# Altium schematic symbol library SamacSys.SchLib: 4 symbols
Pins are listed as number, name and electrical type; pins without a type are passive.

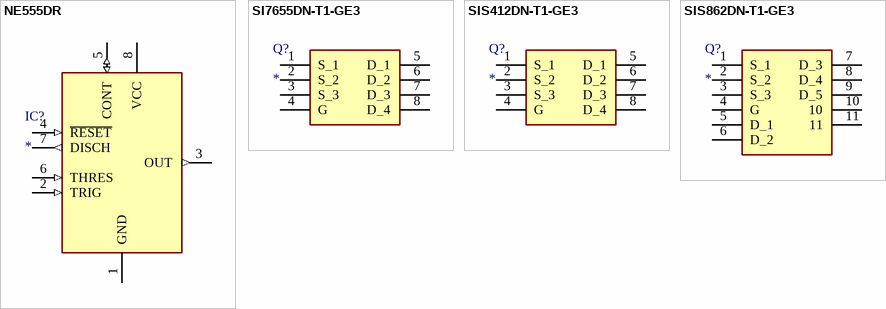
[diagram p0: symbols NE555DR to SIS862DN-T1-GE3]

## NE555DR
designator IC?
Integrated Circuit; Manufacturer_Name: Texas Instruments; Manufacturer_Part_Number: NE555DR; Datasheet Link: http://www.ti.com/lit/ds/symlink/ne555.pdf; Height: 1.75mm; Mouser Part Number: 595-NE555DR; Mouser Price/Stock: https://www.mouser.com/Search/Refine.aspx?Keyword=595-NE555DR; RS Part Number: 1218414; RS Price/Stock: http://uk.rs-online.com/web/p/products/1218414
footprint SOIC127P600X175-8N
pins: 1 GND (power), 2 TRIG (in), 3 OUT (out), 4 ~{RESET} (in), 5 CONT (io), 6 THRES (in), 7 DISCH (out), 8 VCC (power)

## SI7655DN-T1-GE3
designator Q?
MOSFET (P-Channel); Manufacturer_Name: Vishay; Manufacturer_Part_Number: SI7655DN-T1-GE3; Datasheet Link: https://www.vishay.com/docs/63617/si7655dn.pdf; Mouser Part Number: 78-SI7655DN-T1-GE3; Mouser Price/Stock: https://www.mouser.co.uk/ProductDetail/Vishay-Semiconductors/SI7655DN-T1-GE3?qs=8YL4b%2FT9KqrUzqvG%2FOmMqw%3D%3D; Arrow Part Number: SI7655DN-T1-GE3; Arrow Price/Stock: https://www.arrow.com/en/products/si7655dn-t1-ge3/vishay
footprint SIS862DNT1GE3
pins: 1 S_1, 2 S_2, 3 S_3, 4 G, 5 D_1, 6 D_2, 7 D_3, 8 D_4

## SIS412DN-T1-GE3
designator Q?
MOSFET (N-Channel); Manufacturer_Name: Vishay; Manufacturer_Part_Number: SIS412DN-T1-GE3; Description: VISHAY - SIS412DN-T1-GE3 - MOSFET; Datasheet Link: https://componentsearchengine.com//SIS412DN-T1-GE3.pdf; Mouser2 Part Number: 781-SIS412DN-T1-GE3; Mouser2 Price/Stock: https://www.mouser.com/Search/Refine.aspx?Keyword=781-SIS412DN-T1-GE3
footprint POWERPAK-1212-8
pins: 1 S_1, 2 S_2, 3 S_3, 4 G, 5 D_1, 6 D_2, 7 D_3, 8 D_4

## SIS862DN-T1-GE3
designator Q?
MOSFET (N-Channel); Manufacturer_Name: Vishay; Manufacturer_Part_Number: SIS862DN-T1-GE3; Description: MOSFET 60V Vds 20V Vgs PowerPAK 1212-8; Datasheet Link: https://www.vishay.com/docs/63346/sis862dn.pdf; Height: 1.12mm
footprint SIS862DNT1GE3
pins: 1 S_1, 2 S_2, 3 S_3, 4 G, 5 D_1, 6 D_2, 7 D_3, 8 D_4, 9 D_5, 10, 11